# Altium schematic symbol library Fuse.SchLib: 1 symbol
Pins are listed as number, name and electrical type; pins without a type are passive.

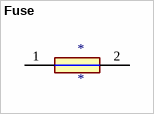
[diagram p0: symbol Fuse]

## Fuse
designator *
footprint Fuse
footprint Fuse_Through_Hole - duplicate
pins: 1, 2